# Altium footprint library SPAN02A12.PcbLib: 1 footprints
Each footprint in its own frame and in the unit in brackets; x right, y up, seen from the top. Pads: shape width x height; smd on the part's side, far side on the other; paste and mask are expansions set on the pad; w line width, h text height; cw(c..) or ccw(c..) is an arc to the next point about the centre after c.
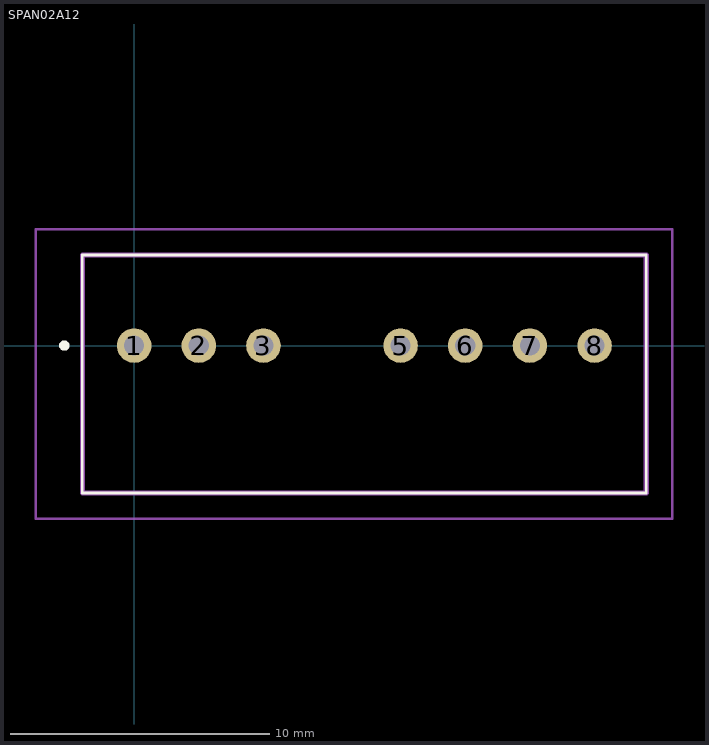
[diagram p0: the footprint, top view; thin cyan lines are the x and y axes]

## SPAN02A12 [mm]
pads (7):
  round 1.337 hole 0.78: 1(0,0) 2(2.5,0) 3(5,0) 5(10.3,0) 6(12.8,0) 7(15.3,0) 8(17.8,0)
Top Overlay:
  lines w0.1: -2,-5.7 19.8,-5.7 19.8,3.5 -2,3.5 -2,-5.7
  lines w0.2: -2.8,0 cw(c-2.7,0) -2.6,0 ; -2.8,0 -2.8,0 ; -2.8,0 ccw(c-2.7,0) -2.6,0 ; -2.6,0 -2.6,0
Mechanical 15:
  lines w0.2: -2,-5.7 19.8,-5.7 19.8,3.5 -2,3.5 -2,-5.7
Mechanical 20:
  lines w0.1: -3.8,-6.7 20.8,-6.7 20.8,4.5 -3.8,4.5 -3.8,-6.7